# Altium schematic symbol library Connectors Rectangular 2.54 IDC.SchLib: 3 symbols
Pins are listed as number, name and electrical type; pins without a type are passive.

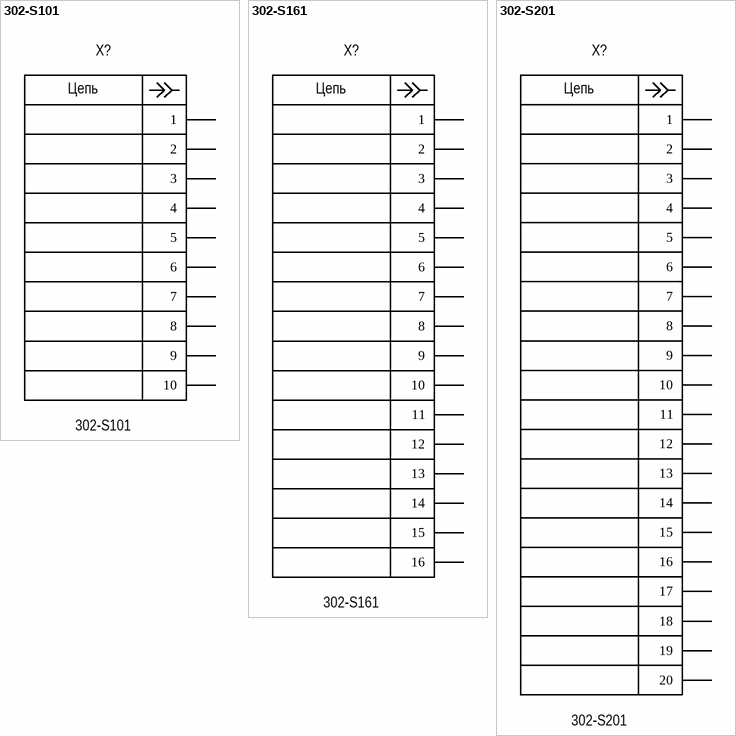
[diagram p0: symbols 302-S101 to 302-S201]

## 302-S101
designator X?
Connector Rectangular 2.54 M 10P2 Board IDC; Manufacturer: On Shore Technology; Group: Mechanical; Pitch: 2.54mm; Positions: 10; Rows: 2; Current rating: 3.0A; Voltage rating: 250V; Placing: Vertical; Shrouding: Shrouded; Connector type: Header; Dimension: 20.50mm x 9.10mm; Operating temperature: -40°C +105°C; Mounting type: Through hole; Package: Connector Rectangular 2.54 M 10P2 Board IDC; Part name: 302-S101; Height: 9.10mm; Insulation color: Black; Component: Connector Rectangular; Contact type: Male pin; Fastening type: Push-Pull; Series: IDC; Connector style: Board; Series name: IDC; System: Connector
footprint IDC-2.54-10
pins: 1, 2, 3, 4, 5, 6, 7, 8, 9, 10
text: Цепь

## 302-S161
designator X?
Connector Rectangular 2.54 M 16P2 Board IDC; Manufacturer: On Shore Technology; Group: Mechanical; Pitch: 2.54mm; Positions: 16; Rows: 2; Current rating: 3.0A; Voltage rating: 250V; Placing: Vertical; Shrouding: Shrouded; Connector type: Header; Dimension: 28.00mm x 9.10mm; Operating temperature: -40°C +105°C; Mounting type: Through hole; Package: Connector Rectangular 2.54 M 16P2 Board IDC; Part name: 302-S161; Height: 9.10mm; Insulation color: Black; Component: Connector Rectangular; Contact type: Male pin; Fastening type: Push-Pull; Series: IDC; Connector style: Board; Series name: IDC; System: Connector
footprint IDC-2.54-16
pins: 1, 2, 3, 4, 5, 6, 7, 8, 9, 10, 11, 12, 13, 14, 15, 16
text: Цепь

## 302-S201
designator X?
Connector Rectangular 2.54 M 20P2 Board IDC; Manufacturer: On Shore Technology; Group: Mechanical; Pitch: 2.54mm; Positions: 20; Rows: 2; Current rating: 3.0A; Voltage rating: 250V; Placing: Vertical; Shrouding: Shrouded; Connector type: Header; Dimension: 33.00mm x 9.10mm; Operating temperature: -40°C +105°C; Mounting type: Through hole; Package: Connector Rectangular 2.54 M 20P2 Board IDC; Part name: 302-S201; Height: 9.10mm; Insulation color: Black; Component: Connector Rectangular; Contact type: Male pin; Fastening type: Push-Pull; Series: IDC; Connector style: Board; Series name: IDC; System: Connector
footprint IDC-2.54-20
pins: 1, 2, 3, 4, 5, 6, 7, 8, 9, 10, 11, 12, 13, 14, 15, 16, 17, 18, 19, 20
text: Цепь